# EAGLE library part CY8C4247-AXI (library PsoC)
CY8C4247-AXI PSoC 4 BLE is a ARM® Cortex®-M0-based, PSoC device that integrates programmable analog front ends, programmable digital logic, industry-leading CapSense® user interface and a Bluetooth® Low Energy (Bluetooth Smart) radio. It includes a royalty-free BLE Protocol Stack compatible with Bluetooth 4.2. Datasheet <http://www.cypress.com/file/137466/download>
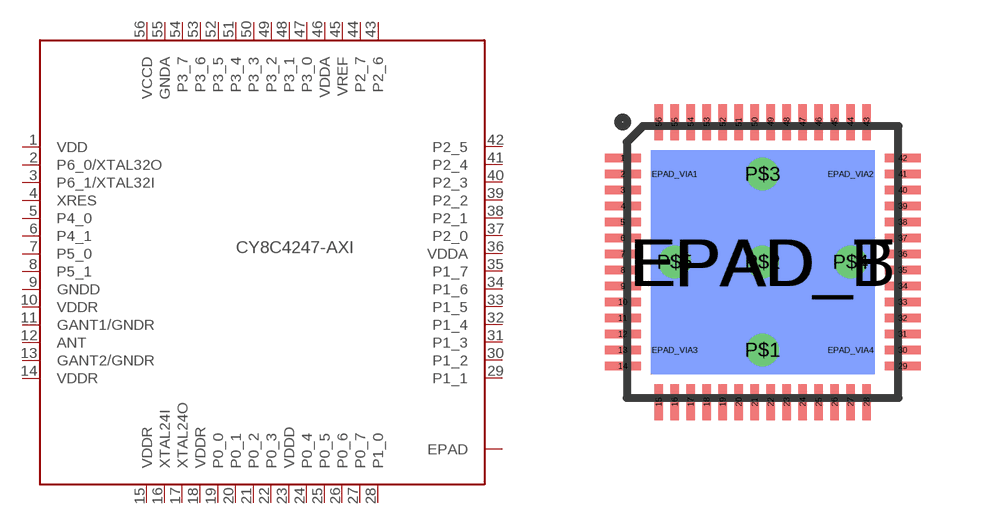
[diagram p2: symbol with the pads of QFN56-7X7; footprint QFN56-7X7]

Designator prefix RF_IC

## CY8C4247-AXI  [QFN56-7X7]
1  VDD  pwr
2  P6_0/XTAL32O
3  P6_1/XTAL32I
4  XRES
5  P4_0
6  P4_1
7  P5_0
8  P5_1
9  GNDD  pwr
10  VDDR  pwr
11  GANT1/GNDR  pwr
12  ANT
13  GANT2/GNDR  pwr
14  VDDR  pwr
15  VDDR  pwr
16  XTAL24I
17  XTAL24O
18  VDDR  pwr
19  P0_0
20  P0_1
21  P0_2
22  P0_3
23  VDDD  pwr
24  P0_4
25  P0_5
26  P0_6
27  P0_7
28  P1_0
29  P1_1
30  P1_2
31  P1_3
32  P1_4
33  P1_5
34  P1_6
35  P1_7
36  VDDA
37  P2_0
38  P2_1
39  P2_2
40  P2_3
41  P2_4
42  P2_5
43  P2_6
44  P2_7
45  VREF
46  VDDA  pwr
47  P3_0
48  P3_1
49  P3_2
50  P3_3
51  P3_4
52  P3_5
53  P3_6
54  P3_7
55  GNDA  pwr
56  VCCD
EPAD_B  EPAD
EPAD_T  EPAD
EPAD_VIA1  EPAD
EPAD_VIA2  EPAD
EPAD_VIA3  EPAD
EPAD_VIA4  EPAD
P$1  EPAD
P$2  EPAD
P$3  EPAD
P$4  EPAD
P$5  EPAD

## Footprint QFN56-7X7 (pad centres in mm)
QFN56-7X7 Auto generated by make-symbol-device-package-bsdl.ulp Rev. 44
smd 0.9 x 0.22: 1 -3.5,2.6; 2 -3.5,2.2; 3 -3.5,1.8; 4 -3.5,1.4; 5 -3.5,1; 6 -3.5,0.6; 7 -3.5,0.2; 8 -3.5,-0.2; 9 -3.5,-0.6; 10 -3.5,-1; 11 -3.5,-1.4; 12 -3.5,-1.8; 13 -3.5,-2.2; 14 -3.5,-2.6; 29 3.5,-2.6; 30 3.5,-2.2; 31 3.5,-1.8; 32 3.5,-1.4; 33 3.5,-1; 34 3.5,-0.6; 35 3.5,-0.2; 36 3.5,0.2; 37 3.5,0.6; 38 3.5,1; 39 3.5,1.4; 40 3.5,1.8; 41 3.5,2.2; 42 3.5,2.6
smd 0.22 x 0.9: 15 -2.6,-3.5; 16 -2.2,-3.5; 17 -1.8,-3.5; 18 -1.4,-3.5; 19 -1,-3.5; 20 -0.6,-3.5; 21 -0.2,-3.5; 22 0.2,-3.5; 23 0.6,-3.5; 24 1,-3.5; 25 1.4,-3.5; 26 1.8,-3.5; 27 2.2,-3.5; 28 2.6,-3.5; 43 2.6,3.5; 44 2.2,3.5; 45 1.8,3.5; 46 1.4,3.5; 47 1,3.5; 48 0.6,3.5; 49 0.2,3.5; 50 -0.2,3.5; 51 -0.6,3.5; 52 -1,3.5; 53 -1.4,3.5; 54 -1.8,3.5; 55 -2.2,3.5; 56 -2.6,3.5
smd 5.6 x 5.6 bottom: EPAD_B 0,0
smd 5.6 x 5.6: EPAD_T 0,0
drill 0.3: EPAD_VIA1 -2.2,2.2; EPAD_VIA2 2.2,2.2; EPAD_VIA3 -2.2,-2.2; EPAD_VIA4 2.2,-2.2; P$1 0,-2.2; P$2 0,0; P$3 0,2.2; P$4 2.2,0; P$5 -2.2,0